# Altium footprint library con-avx.PCBLIB: 7 footprints
Each footprint in its own frame and in the unit in brackets; x right, y up, seen from the top. Pads: shape width x height; smd on the part's side, far side on the other; paste and mask are expansions set on the pad; w line width, h text height; cw(c..) or ccw(c..) is an arc to the next point about the centre after c.
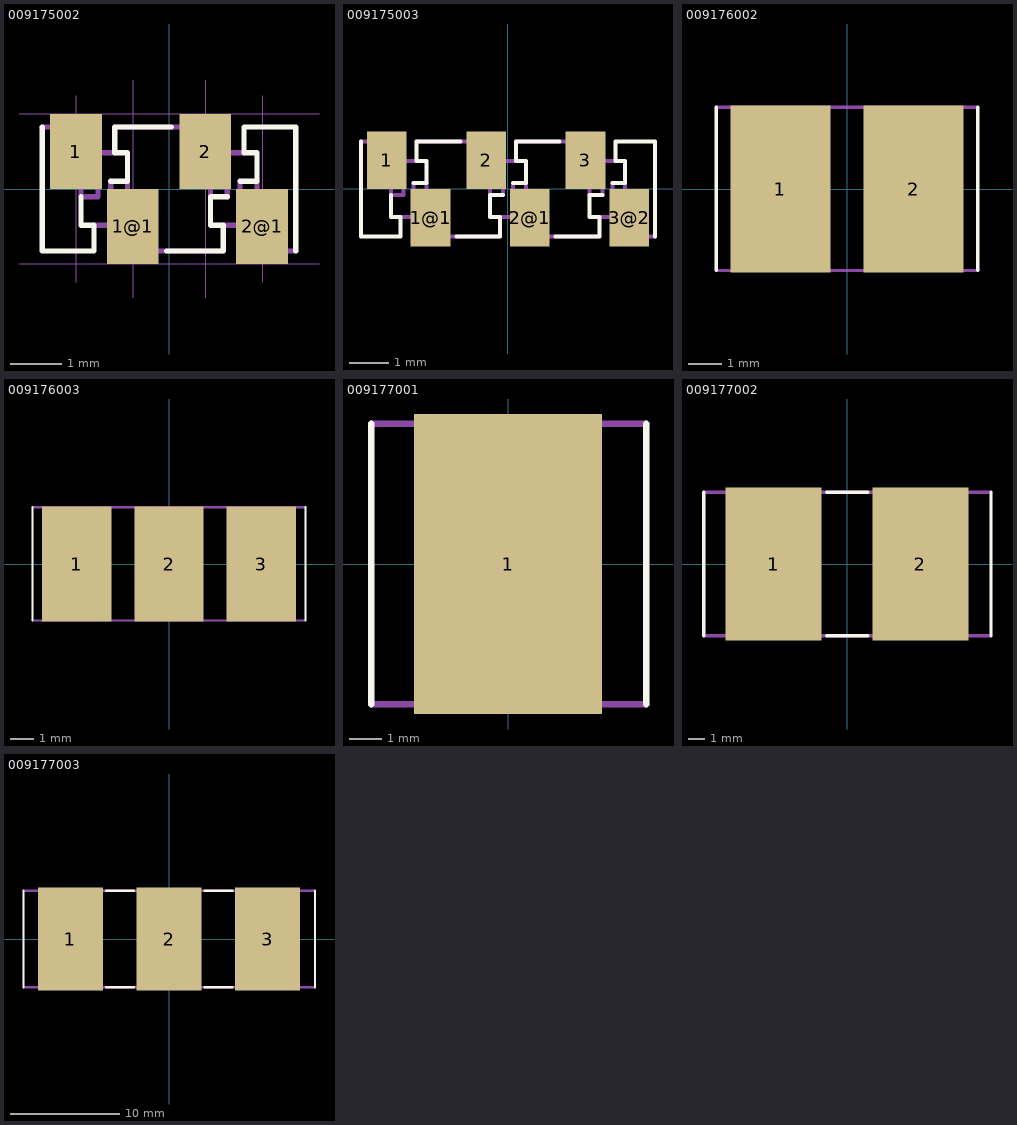
[diagram p0: the footprints below, top view; thin cyan lines are the x and y axes]

## 009175002 [mm]
pads (4):
  rect 1x1.45 smd: 1(-1.8,0.725) 1@1(-0.7,-0.725) 2(0.7,0.725) 2@1(1.8,-0.725)
Top Overlay:
  lines w0.102: -2.45,1.2 -2.45,-1.2 -1.45,-1.2 -1.45,-0.7 -1.7,-0.7 -1.7,-0.15 ; -1.125,0.15 -0.8,0.15 -0.8,0.7 -1.05,0.7 -1.05,1.2 0.05,1.2 ; -0.05,-1.2 1.05,-1.2 1.05,-0.7 0.8,-0.7 0.8,-0.15 1.125,-0.15 ; 1.375,0.15 1.7,0.15 1.7,0.7 1.45,0.7 1.45,1.2 2.45,1.2 2.45,-1.2
Mechanical 16:
  lines w0.102: -2.45,1.2 -1.45,1.2 -1.45,0.7 ; -1.45,-0.7 -1.05,-0.7 ; -1.125,0.15 -1.125,-0.15 -0.8,-0.15 ; -1.05,0.7 -1.45,0.7 ; -1.05,1.2 1.05,1.2 1.05,0.7 ; -0.8,0.15 -0.8,-0.15 ; 0.8,-0.15 0.8,0.15 ; 1.05,-1.2 -1.05,-1.2 -1.05,-0.7 ; 1.05,-0.7 1.45,-0.7 ; 1.125,-0.15 1.125,0.15 0.8,0.15 ; 1.375,0.15 1.375,-0.15 1.7,-0.15 ; 1.45,0.7 1.05,0.7 ; 1.7,0.15 1.7,-0.15 ; 2.45,-1.2 1.45,-1.2 1.45,-0.7 ; -1.7,0.15 -1.375,0.15 -1.375,-0.15 -1.7,-0.15 -1.7,0.15 ; -1.7,0.15 -1.7,0.7 -1.45,0.7 ; -1.05,-0.7 -0.8,-0.7 -0.8,-0.15 ; 0.8,0.15 0.8,0.7 1.05,0.7 ; 1.45,-0.7 1.7,-0.7 1.7,-0.15
Mechanical 19:
  lines w0: -2.9,-1.45 2.9,-1.45 ; -2.9,1.45 2.9,1.45 ; -1.8,-1.8 -1.8,1.8 ; -0.7,-2.1 -0.7,2.1 ; 0.7,-2.1 0.7,2.1 ; 1.8,-1.8 1.8,1.8

## 009175003 [mm]
pads (6):
  rect 1x1.45 smd: 1(-3.05,0.725) 1@1(-1.95,-0.725) 2(-0.55,0.725) 2@1(0.55,-0.725) 3(1.95,0.725) 3@2(3.05,-0.725)
Top Overlay:
  lines w0.102: -3.7,1.2 -3.7,-1.2 -2.7,-1.2 -2.7,-0.7 -2.95,-0.7 -2.95,-0.15 ; -2.375,0.15 -2.05,0.15 -2.05,0.7 -2.3,0.7 -2.3,1.2 -1.2,1.2 ; -1.3,-1.2 -0.2,-1.2 -0.2,-0.7 -0.45,-0.7 -0.45,-0.15 -0.125,-0.15 ; 0.125,0.15 0.45,0.15 0.45,0.7 0.2,0.7 0.2,1.2 ; 1.2,-1.2 2.3,-1.2 2.3,-0.7 2.05,-0.7 2.05,-0.15 2.375,-0.15 ; 1.2,1.2 0.2,1.2 ; 1.3,1.2 0.2,1.2 ; 2.625,0.15 2.95,0.15 2.95,0.7 2.7,0.7 2.7,1.2 3.7,1.2 3.7,-1.2
Mechanical 16:
  lines w0.102: -3.7,1.2 -2.7,1.2 -2.7,0.7 ; -2.7,-0.7 -2.3,-0.7 ; -2.375,0.15 -2.375,-0.15 -2.05,-0.15 ; -2.3,0.7 -2.7,0.7 ; -2.3,1.2 -0.2,1.2 -0.2,0.7 ; -2.05,0.15 -2.05,-0.15 ; -0.45,-0.15 -0.45,0.15 ; -0.2,-1.2 -2.3,-1.2 -2.3,-0.7 ; -0.2,-0.7 0.2,-0.7 ; -0.125,-0.15 -0.125,0.15 -0.45,0.15 ; 0.125,0.15 0.125,-0.15 0.45,-0.15 ; 0.2,0.7 -0.2,0.7 ; 0.2,1.2 2.3,1.2 2.3,0.7 ; 0.45,0.15 0.45,-0.15 ; 1.2,-1.2 0.2,-1.2 ; 2.05,-0.15 2.05,0.15 ; 2.3,-1.2 0.2,-1.2 ; 2.3,-0.7 2.7,-0.7 ; 2.375,-0.15 2.375,0.15 2.05,0.15 ; 2.625,0.15 2.625,-0.15 2.95,-0.15 ; 2.7,0.7 2.3,0.7 ; 2.95,0.15 2.95,-0.15 ; 3.7,-1.2 2.7,-1.2 2.7,-0.7 ; -2.95,0.15 -2.625,0.15 -2.625,-0.15 -2.95,-0.15 -2.95,0.15 ; -2.95,0.15 -2.95,0.7 -2.7,0.7 ; -2.3,-0.7 -2.05,-0.7 -2.05,-0.15 ; -0.45,0.15 -0.45,0.7 -0.2,0.7 ; 0.2,-1.2 0.2,-0.7 ; 0.2,-0.7 0.45,-0.7 0.45,-0.15 ; 2.05,0.15 2.05,0.7 2.3,0.7 ; 2.7,-0.7 2.95,-0.7 2.95,-0.15

## 009176002 [mm]
pads (2):
  rect 3x5 smd: 1(-2,0) 2(2,0)
Top Overlay:
  lines w0.102: -3.917,-2.446 -3.917,2.456 ; 3.917,-2.446 3.917,2.456
Mechanical 16:
  lines w0.102: -3.917,-2.446 -2.976,-2.446 ; -3.917,2.456 -2.976,2.456 ; -2.463,-2.446 -2.463,-2.041 -2.474,-2.041 ; -2.452,2.456 -2.452,2.03 ; -1.459,-2.446 -1.459,-2.041 -1.469,-2.041 ; 1.483,-2.446 1.483,-2.041 1.472,-2.041 ; 1.494,2.456 1.494,2.03 ; 2.487,-2.446 2.487,-2.041 2.476,-2.041 ; 2.498,2.456 2.498,2.03 ; 3.917,-2.446 3.033,-2.446 ; 3.917,2.456 3.033,2.456 ; -2.976,-2.446 -0.913,-2.446 ; -2.976,-2.446 -2.976,-2.041 ; -2.976,-2.041 -2.976,-1.266 ; -2.976,-2.041 -2.474,-2.041 ; -2.976,-1.266 -2.976,-0.721 ; -2.976,-1.266 -2.31,-1.266 ; -2.976,-0.721 -2.976,0.732 ; -2.976,-0.721 -2.31,-0.721 ; -2.976,0.732 -2.976,1.277 ; -2.976,0.732 -2.321,0.732 ; -2.976,1.277 -2.976,2.03 ; -2.976,1.277 -2.321,1.277 ; -2.976,2.03 -2.976,2.456 ; -2.976,2.03 -2.452,2.03 ; -2.976,2.456 -1.448,2.456 ; -2.474,-2.041 -1.469,-2.041 ; -2.452,2.03 -1.448,2.03 ; -2.321,0.732 -1.59,0.732 ; -2.321,0.732 -2.321,1.277 ; -2.321,1.277 -1.59,1.277 ; -2.31,-1.266 -1.59,-1.266 ; -2.31,-1.266 -2.31,-0.721 ; -2.31,-0.721 -1.59,-0.721 ; -1.59,-1.266 -0.913,-1.266 ; -1.59,-1.266 -1.59,-0.721 ; -1.59,-0.721 -0.913,-0.721 ; -1.59,0.732 -0.913,0.732 ; -1.59,0.732 -1.59,1.277 ; -1.59,1.277 -0.913,1.277 ; -1.469,-2.041 -0.913,-2.041 ; -1.448,2.03 -0.913,2.03 ; -1.448,2.03 -1.448,2.456 ; -1.448,2.456 -0.913,2.456 ; -0.913,-2.446 0.97,-2.446 ; -0.913,-2.446 -0.913,-2.041 ; -0.913,-2.041 -0.913,-1.266 ; -0.913,-1.266 -0.913,-0.721 ; -0.913,-0.721 -0.913,0.732 ; -0.913,0.732 -0.913,1.277 ; -0.913,1.277 -0.913,2.03 ; -0.913,2.03 -0.913,2.456 ; -0.913,2.456 0.97,2.456 ; 0.97,-2.446 3.033,-2.446 ; 0.97,-2.446 0.97,-2.041 ; 0.97,-2.041 0.97,-1.266 ; 0.97,-2.041 1.472,-2.041 ; 0.97,-1.266 0.97,-0.721 ; 0.97,-1.266 1.635,-1.266 ; 0.97,-0.721 0.97,0.732 ; 0.97,-0.721 1.635,-0.721 ; 0.97,0.732 0.97,1.277 ; 0.97,0.732 1.624,0.732 ; 0.97,1.277 0.97,2.03 ; 0.97,1.277 1.624,1.277 ; 0.97,2.03 0.97,2.456 ; 0.97,2.03 1.494,2.03 ; 0.97,2.456 3.033,2.456 ; 1.472,-2.041 2.476,-2.041 ; 1.494,2.03 2.498,2.03 ; 1.624,0.732 2.356,0.732 ; 1.624,0.732 1.624,1.277 ; 1.624,1.277 2.356,1.277 ; 1.635,-1.266 2.356,-1.266 ; 1.635,-1.266 1.635,-0.721 ; 1.635,-0.721 2.356,-0.721 ; 2.356,-1.266 3.033,-1.266 ; 2.356,-1.266 2.356,-0.721 ; 2.356,-0.721 3.033,-0.721 ; 2.356,0.732 3.033,0.732 ; 2.356,0.732 2.356,1.277 ; 2.356,1.277 3.033,1.277 ; 2.476,-2.041 3.033,-2.041 ; 2.498,2.03 3.033,2.03 ; 3.033,-2.446 3.033,-2.041 ; 3.033,-2.041 3.033,-1.266 ; 3.033,-1.266 3.033,-0.721 ; 3.033,-0.721 3.033,0.732 ; 3.033,0.732 3.033,1.277 ; 3.033,1.277 3.033,2.03 ; 3.033,2.03 3.033,2.456

## 009176003 [mm]
pads (3):
  rect 3x5 smd: 1(-4,0) 2(0,0) 3(4,0)
Top Overlay:
  lines w0.102: -5.917,-2.446 -5.917,2.456 ; 5.917,-2.446 5.917,2.456
Mechanical 16:
  lines w0.102: -5.917,-2.446 -4.976,-2.446 ; -5.917,2.456 -4.976,2.456 ; -4.463,-2.446 -4.463,-2.041 -4.474,-2.041 ; -4.452,2.456 -4.452,2.03 ; -3.459,-2.446 -3.459,-2.041 -3.469,-2.041 ; -0.517,-2.446 -0.517,-2.041 -0.528,-2.041 ; -0.506,2.456 -0.506,2.03 ; 0.487,-2.446 0.487,-2.041 0.476,-2.041 ; 0.498,2.456 0.498,2.03 ; 5.917,-2.446 4.989,-2.446 ; 5.917,2.456 4.989,2.456 ; -4.976,-2.446 -2.913,-2.446 ; -4.976,-2.446 -4.976,-2.041 ; -4.976,-2.041 -4.976,-1.266 ; -4.976,-2.041 -4.474,-2.041 ; -4.976,-1.266 -4.976,-0.721 ; -4.976,-1.266 -4.31,-1.266 ; -4.976,-0.721 -4.976,0.732 ; -4.976,-0.721 -4.31,-0.721 ; -4.976,0.732 -4.976,1.277 ; -4.976,0.732 -4.321,0.732 ; -4.976,1.277 -4.976,2.03 ; -4.976,1.277 -4.321,1.277 ; -4.976,2.03 -4.976,2.456 ; -4.976,2.03 -4.452,2.03 ; -4.976,2.456 -3.448,2.456 ; -4.474,-2.041 -3.469,-2.041 ; -4.452,2.03 -3.448,2.03 ; -4.321,0.732 -3.59,0.732 ; -4.321,0.732 -4.321,1.277 ; -4.321,1.277 -3.59,1.277 ; -4.31,-1.266 -3.59,-1.266 ; -4.31,-1.266 -4.31,-0.721 ; -4.31,-0.721 -3.59,-0.721 ; -3.59,-1.266 -2.913,-1.266 ; -3.59,-1.266 -3.59,-0.721 ; -3.59,-0.721 -2.913,-0.721 ; -3.59,0.732 -2.913,0.732 ; -3.59,0.732 -3.59,1.277 ; -3.59,1.277 -2.913,1.277 ; -3.469,-2.041 -2.913,-2.041 ; -3.448,2.03 -2.913,2.03 ; -3.448,2.03 -3.448,2.456 ; -3.448,2.456 -2.913,2.456 ; -2.913,-2.446 -1.03,-2.446 ; -2.913,-2.446 -2.913,-2.041 ; -2.913,-2.041 -2.913,-1.266 ; -2.913,-1.266 -2.913,-0.721 ; -2.913,-0.721 -2.913,0.732 ; -2.913,0.732 -2.913,1.277 ; -2.913,1.277 -2.913,2.03 ; -2.913,2.03 -2.913,2.456 ; -2.913,2.456 -1.03,2.456 ; -1.03,-2.446 1.033,-2.446 ; -1.03,-2.446 -1.03,-2.041 ; -1.03,-2.041 -1.03,-1.266 ; -1.03,-2.041 -0.528,-2.041 ; -1.03,-1.266 -1.03,-0.721 ; -1.03,-1.266 -0.365,-1.266 ; -1.03,-0.721 -1.03,0.732 ; -1.03,-0.721 -0.365,-0.721 ; -1.03,0.732 -1.03,1.277 ; -1.03,0.732 -0.376,0.732 ; -1.03,1.277 -1.03,2.03 ; -1.03,1.277 -0.376,1.277 ; -1.03,2.03 -1.03,2.456 ; -1.03,2.03 -0.506,2.03 ; -1.03,2.456 1.033,2.456 ; -0.528,-2.041 0.476,-2.041 ; -0.506,2.03 0.498,2.03 ; -0.376,0.732 0.356,0.732 ; -0.376,0.732 -0.376,1.277 ; -0.376,1.277 0.356,1.277 ; -0.365,-1.266 0.356,-1.266 ; -0.365,-1.266 -0.365,-0.721 ; -0.365,-0.721 0.356,-0.721 ; 0.356,-1.266 1.033,-1.266 ; 0.356,-1.266 0.356,-0.721 ; 0.356,-0.721 1.033,-0.721 ; 0.356,0.732 1.033,0.732 ; 0.356,0.732 0.356,1.277 ; 0.356,1.277 1.033,1.277 ; 0.476,-2.041 1.033,-2.041 ; 0.498,2.03 1.033,2.03 ; 1.033,-2.446 2.926,-2.446 ; 1.033,-2.446 1.033,-2.041 ; 1.033,-2.041 1.033,-1.266 ; 1.033,-1.266 1.033,-0.721 ; 1.033,-0.721 1.033,0.732 ; 1.033,0.732 1.033,1.277 ; 1.033,1.277 1.033,2.03 ; 1.033,2.03 1.033,2.456 ; 1.033,2.456 2.926,2.456 ; 2.926,-2.446 3.439,-2.446 ; 2.926,-2.446 2.926,-2.041 ; 2.926,-2.041 2.926,-1.266 ; 2.926,-2.041 3.428,-2.041 ; 2.926,-1.266 2.926,-0.721 ; 2.926,-1.266 3.592,-1.266 ; 2.926,-0.721 2.926,0.732 ; 2.926,-0.721 3.592,-0.721 ; 2.926,0.732 2.926,1.277 ; 2.926,0.732 3.581,0.732 ; 2.926,1.277 2.926,2.03 ; 2.926,1.277 3.581,1.277 ; 2.926,2.03 2.926,2.456 ; 2.926,2.03 3.45,2.03 ; 2.926,2.456 3.45,2.456 ; 3.428,-2.041 3.439,-2.041 3.439,-2.446 ; 3.428,-2.041 4.432,-2.041 ; 3.439,-2.446 4.443,-2.446 ; 3.45,2.03 4.454,2.03 ; 3.45,2.03 3.45,2.456 ; 3.45,2.456 4.454,2.456 ; 3.581,0.732 4.312,0.732 ; 3.581,0.732 3.581,1.277 ; 3.581,1.277 4.312,1.277 ; 3.592,-1.266 4.312,-1.266 ; 3.592,-1.266 3.592,-0.721 ; 3.592,-0.721 4.312,-0.721 ; 4.312,-1.266 4.989,-1.266 ; 4.312,-1.266 4.312,-0.721 ; 4.312,-0.721 4.989,-0.721 ; 4.312,0.732 4.989,0.732 ; 4.312,0.732 4.312,1.277 ; 4.312,1.277 4.989,1.277 ; 4.432,-2.041 4.443,-2.041 4.443,-2.446 ; 4.432,-2.041 4.989,-2.041 ; 4.443,-2.446 4.989,-2.446 ; 4.454,2.03 4.989,2.03 ; 4.454,2.03 4.454,2.456 ; 4.454,2.456 4.989,2.456 ; 4.989,-2.446 4.989,-2.041 ; 4.989,-2.041 4.989,-1.266 ; 4.989,-1.266 4.989,-0.721 ; 4.989,-0.721 4.989,0.732 ; 4.989,0.732 4.989,1.277 ; 4.989,1.277 4.989,2.03 ; 4.989,2.03 4.989,2.456

## 009177001 [mm]
pads (1):
  rect 5.9x9.4 smd: 1(0,0)
Top Overlay:
  lines w0.203: -4.283,-4.397 -4.283,4.397 ; 4.328,-4.397 4.328,4.397
Mechanical 16:
  lines w0.203: -4.283,-4.397 -0.733,-4.397 -0.733,-3.55 ; -4.283,4.397 -0.71,4.397 -0.71,3.573 ; -1.718,-4.397 -1.718,-3.55 ; -1.718,4.351 -1.718,3.573 ; 0.389,-1.764 0.389,-1.214 ; 1.74,4.351 1.74,3.573 ; 4.328,-4.397 1.74,-4.397 ; 4.328,4.397 0.756,4.397 0.756,3.573 ; -1.718,-3.55 -1.718,-1.74 ; -1.718,-3.55 -0.733,-3.55 ; -1.718,-1.74 -1.718,-1.214 ; -1.718,-1.74 -0.367,-1.74 ; -1.718,-1.214 -1.718,1.237 ; -1.718,-1.214 -0.367,-1.214 ; -1.718,1.237 -1.718,1.74 ; -1.718,1.237 -0.367,1.237 ; -1.718,1.74 -1.718,3.573 ; -1.718,1.74 -0.367,1.74 ; -1.718,3.573 -0.71,3.573 ; -0.733,-3.55 0.756,-3.55 ; -0.71,3.573 0.756,3.573 ; -0.367,-1.74 1.74,-1.74 ; -0.367,-1.74 -0.367,-1.214 ; -0.367,-1.214 0.389,-1.214 ; -0.367,1.237 0.412,1.237 ; -0.367,1.237 -0.367,1.74 ; -0.367,1.74 0.412,1.74 ; 0.389,-1.214 1.74,-1.214 ; 0.412,1.237 1.74,1.237 ; 0.412,1.237 0.412,1.74 ; 0.412,1.74 1.74,1.74 ; 0.756,-3.55 1.74,-3.55 ; 0.756,-3.55 0.756,-4.397 1.74,-4.397 ; 0.756,3.573 1.74,3.573 ; 1.74,-4.397 1.74,-3.55 ; 1.74,-3.55 1.74,-1.74 ; 1.74,-1.74 1.74,-1.214 ; 1.74,-1.214 1.74,1.237 ; 1.74,1.237 1.74,1.74 ; 1.74,1.74 1.74,3.573

## 009177002 [mm]
pads (2):
  rect 5.9x9.4 smd: 1(-4.5,0) 2(4.5,0)
Top Overlay:
  lines w0.203: -8.783,-4.397 -8.783,4.397 ; -1.26,-4.397 1.282,-4.397 ; -1.244,4.397 1.29,4.397 ; 8.828,-4.397 8.828,4.397
Mechanical 16:
  lines w0.203: -8.783,-4.397 -5.233,-4.397 -5.233,-3.55 ; -8.783,4.397 -5.21,4.397 -5.21,3.573 ; -6.218,-4.397 -6.218,-3.55 ; -6.218,4.351 -6.218,3.573 ; -4.111,-1.764 -4.111,-1.214 ; -2.759,4.351 -2.759,3.573 ; 2.782,4.351 2.782,3.573 ; 4.889,-1.764 4.889,-1.214 ; 6.241,4.351 6.241,3.573 ; 8.828,-4.397 6.241,-4.397 ; 8.828,4.397 5.256,4.397 5.256,3.573 ; -6.218,-3.55 -6.218,-1.74 ; -6.218,-3.55 -5.233,-3.55 ; -6.218,-1.74 -6.218,-1.214 ; -6.218,-1.74 -4.866,-1.74 ; -6.218,-1.214 -6.218,1.237 ; -6.218,-1.214 -4.866,-1.214 ; -6.218,1.237 -6.218,1.74 ; -6.218,1.237 -4.866,1.237 ; -6.218,1.74 -6.218,3.573 ; -6.218,1.74 -4.866,1.74 ; -6.218,3.573 -5.21,3.573 ; -5.233,-3.55 -3.744,-3.55 ; -5.21,3.573 -3.744,3.573 ; -4.866,-1.74 -2.759,-1.74 ; -4.866,-1.74 -4.866,-1.214 ; -4.866,-1.214 -4.111,-1.214 ; -4.866,1.237 -4.088,1.237 ; -4.866,1.237 -4.866,1.74 ; -4.866,1.74 -4.088,1.74 ; -4.111,-1.214 -2.759,-1.214 ; -4.088,1.237 -2.759,1.237 ; -4.088,1.237 -4.088,1.74 ; -4.088,1.74 -2.759,1.74 ; -3.744,-3.55 -2.759,-3.55 ; -3.744,-3.55 -3.744,-4.397 -2.759,-4.397 ; -3.744,3.573 -2.759,3.573 ; -3.744,3.573 -3.744,4.397 3.79,4.397 3.79,3.573 ; -2.759,-4.397 2.782,-4.397 ; -2.759,-4.397 -2.759,-3.55 ; -2.759,-3.55 -2.759,-1.74 ; -2.759,-1.74 -2.759,-1.214 ; -2.759,-1.214 -2.759,1.237 ; -2.759,1.237 -2.759,1.74 ; -2.759,1.74 -2.759,3.573 ; 2.782,-4.397 3.767,-4.397 3.767,-3.55 ; 2.782,-4.397 2.782,-3.55 ; 2.782,-3.55 2.782,-1.74 ; 2.782,-3.55 3.767,-3.55 ; 2.782,-1.74 2.782,-1.214 ; 2.782,-1.74 4.134,-1.74 ; 2.782,-1.214 2.782,1.237 ; 2.782,-1.214 4.134,-1.214 ; 2.782,1.237 2.782,1.74 ; 2.782,1.237 4.134,1.237 ; 2.782,1.74 2.782,3.573 ; 2.782,1.74 4.134,1.74 ; 2.782,3.573 3.79,3.573 ; 3.767,-3.55 5.256,-3.55 ; 3.79,3.573 5.256,3.573 ; 4.134,-1.74 6.241,-1.74 ; 4.134,-1.74 4.134,-1.214 ; 4.134,-1.214 4.889,-1.214 ; 4.134,1.237 4.912,1.237 ; 4.134,1.237 4.134,1.74 ; 4.134,1.74 4.912,1.74 ; 4.889,-1.214 6.241,-1.214 ; 4.912,1.237 6.241,1.237 ; 4.912,1.237 4.912,1.74 ; 4.912,1.74 6.241,1.74 ; 5.256,-3.55 6.241,-3.55 ; 5.256,-3.55 5.256,-4.397 6.241,-4.397 ; 5.256,3.573 6.241,3.573 ; 6.241,-4.397 6.241,-3.55 ; 6.241,-3.55 6.241,-1.74 ; 6.241,-1.74 6.241,-1.214 ; 6.241,-1.214 6.241,1.237 ; 6.241,1.237 6.241,1.74 ; 6.241,1.74 6.241,3.573

## 009177003 [mm]
pads (3):
  rect 5.9x9.4 smd: 1(-9,0) 2(0,0) 3(9,0)
Top Overlay:
  lines w0.203: -13.283,-4.397 -13.283,4.397 ; -5.744,-4.397 -3.218,-4.397 ; -5.744,4.397 -3.21,4.397 ; 3.241,-4.397 5.782,-4.397 ; 3.256,4.397 5.79,4.397 ; 13.328,-4.397 13.328,4.397
Mechanical 16:
  lines w0.203: -13.283,-4.397 -9.733,-4.397 -9.733,-3.55 ; -13.283,4.397 -9.71,4.397 -9.71,3.573 ; -10.718,-4.397 -10.718,-3.55 ; -10.718,4.351 -10.718,3.573 ; -8.611,-1.764 -8.611,-1.214 ; -7.26,-4.397 -7.26,-3.55 ; -7.26,4.351 -7.26,3.573 ; -1.718,4.351 -1.718,3.573 ; 1.74,4.351 1.74,3.573 ; 7.282,4.351 7.282,3.573 ; 9.389,-1.764 9.389,-1.214 ; 10.74,4.351 10.74,3.573 ; 13.328,-4.397 10.74,-4.397 ; 13.328,4.397 9.756,4.397 9.756,3.573 ; -10.718,-3.55 -10.718,-1.74 ; -10.718,-3.55 -9.733,-3.55 ; -10.718,-1.74 -10.718,-1.214 ; -10.718,-1.74 -9.367,-1.74 ; -10.718,-1.214 -10.718,1.237 ; -10.718,-1.214 -9.367,-1.214 ; -10.718,1.237 -10.718,1.74 ; -10.718,1.237 -9.367,1.237 ; -10.718,1.74 -10.718,3.573 ; -10.718,1.74 -9.367,1.74 ; -10.718,3.573 -9.71,3.573 ; -9.733,-3.55 -8.244,-3.55 ; -9.71,3.573 -8.244,3.573 ; -9.367,-1.74 -7.26,-1.74 ; -9.367,-1.74 -9.367,-1.214 ; -9.367,-1.214 -8.611,-1.214 ; -9.367,1.237 -8.588,1.237 ; -9.367,1.237 -9.367,1.74 ; -9.367,1.74 -8.588,1.74 ; -8.611,-1.214 -7.26,-1.214 ; -8.588,1.237 -7.26,1.237 ; -8.588,1.237 -8.588,1.74 ; -8.588,1.74 -7.26,1.74 ; -8.244,-3.55 -7.26,-3.55 ; -8.244,-3.55 -8.244,-4.397 -1.718,-4.397 ; -8.244,3.573 -7.26,3.573 ; -8.244,3.573 -8.244,4.397 -0.71,4.397 -0.71,3.573 ; -7.26,-3.55 -7.26,-1.74 ; -7.26,-1.74 -7.26,-1.214 ; -7.26,-1.214 -7.26,1.237 ; -7.26,1.237 -7.26,1.74 ; -7.26,1.74 -7.26,3.573 ; -1.718,-4.397 -0.733,-4.397 -0.733,-3.55 ; -1.718,-4.397 -1.718,-3.55 ; -1.718,-3.55 -1.718,-1.74 ; -1.718,-3.55 -0.733,-3.55 ; -1.718,-1.74 -1.718,-1.214 ; -1.718,-1.74 -0.367,-1.74 ; -1.718,-1.214 -1.718,1.237 ; -1.718,-1.214 -0.367,-1.214 ; -1.718,1.237 -1.718,1.74 ; -1.718,1.237 -0.367,1.237 ; -1.718,1.74 -1.718,3.573 ; -1.718,1.74 -0.367,1.74 ; -1.718,3.573 -0.71,3.573 ; -0.733,-3.55 0.756,-3.55 ; -0.71,3.573 0.756,3.573 ; -0.367,-1.74 0.389,-1.74 ; -0.367,-1.74 -0.367,-1.214 ; -0.367,-1.214 0.389,-1.214 ; -0.367,1.237 0.412,1.237 ; -0.367,1.237 -0.367,1.74 ; -0.367,1.74 0.412,1.74 ; 0.389,-1.74 1.74,-1.74 ; 0.389,-1.74 0.389,-1.214 ; 0.389,-1.214 1.74,-1.214 ; 0.412,1.237 1.74,1.237 ; 0.412,1.237 0.412,1.74 ; 0.412,1.74 1.74,1.74 ; 0.756,-3.55 1.74,-3.55 ; 0.756,-3.55 0.756,-4.397 1.74,-4.397 ; 0.756,3.573 1.74,3.573 ; 0.756,3.573 0.756,4.397 8.29,4.397 8.29,3.573 ; 1.74,-4.397 7.282,-4.397 ; 1.74,-4.397 1.74,-3.55 ; 1.74,-3.55 1.74,-1.74 ; 1.74,-1.74 1.74,-1.214 ; 1.74,-1.214 1.74,1.237 ; 1.74,1.237 1.74,1.74 ; 1.74,1.74 1.74,3.573 ; 7.282,-4.397 8.267,-4.397 8.267,-3.55 ; 7.282,-4.397 7.282,-3.55 ; 7.282,-3.55 7.282,-1.74 ; 7.282,-3.55 8.267,-3.55 ; 7.282,-1.74 7.282,-1.214 ; 7.282,-1.74 8.634,-1.74 ; 7.282,-1.214 7.282,1.237 ; 7.282,-1.214 8.634,-1.214 ; 7.282,1.237 7.282,1.74 ; 7.282,1.237 8.634,1.237 ; 7.282,1.74 7.282,3.573 ; 7.282,1.74 8.634,1.74 ; 7.282,3.573 8.29,3.573 ; 8.267,-3.55 9.756,-3.55 ; 8.29,3.573 9.756,3.573 ; 8.634,-1.74 10.74,-1.74 ; 8.634,-1.74 8.634,-1.214 ; 8.634,-1.214 9.389,-1.214 ; 8.634,1.237 9.412,1.237 ; 8.634,1.237 8.634,1.74 ; 8.634,1.74 9.412,1.74 ; 9.389,-1.214 10.74,-1.214 ; 9.412,1.237 10.74,1.237 ; 9.412,1.237 9.412,1.74 ; 9.412,1.74 10.74,1.74 ; 9.756,-3.55 10.74,-3.55 ; 9.756,-3.55 9.756,-4.397 10.74,-4.397 ; 9.756,3.573 10.74,3.573 ; 10.74,-4.397 10.74,-3.55 ; 10.74,-3.55 10.74,-1.74 ; 10.74,-1.74 10.74,-1.214 ; 10.74,-1.214 10.74,1.237 ; 10.74,1.237 10.74,1.74 ; 10.74,1.74 10.74,3.573